# EAGLE library part WS2813B-V5 (library WS2813B-V5)
SMD,5.4x5.0x1.65mm Light Emitting Diodes (LED) RoHS Source: Datasheet <https://datasheet.lcsc.com/lcsc/2012110135_Worldsemi-WS2813B-V5_C965558.pdf>
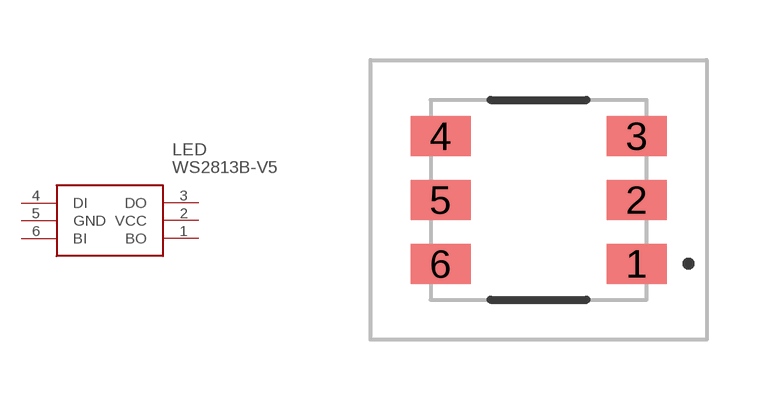
[diagram p0: symbol with the pads of WS2813BV5; footprint WS2813BV5]

Designator prefix LED

## WS2813B-V5 (Description: SMD,5.4x5.0x1.65mm Light Emitting Diodes (LED) RoHS; Height: 1.7mm; Manufacturer_Name: Worldsemi; Manufacturer_Part_Number: WS2813B-V5)  [WS2813BV5]
1  BO
2  VCC
3  DO
4  DI
5  GND
6  BI

## Footprint WS2813BV5 (pad centres in mm)
WS2813B-V5-2
smd 1.5 x 1: 1 2.45,-1.6; 2 2.45,0; 3 2.45,1.6; 4 -2.45,1.6; 5 -2.45,0; 6 -2.45,-1.6